# Altium footprint library CAPPRD250W45D630H600.PcbLib: 1 footprints
Each footprint in its own frame and in the unit in brackets; x right, y up, seen from the top. Pads: shape width x height; smd on the part's side, far side on the other; paste and mask are expansions set on the pad; w line width, h text height; cw(c..) or ccw(c..) is an arc to the next point about the centre after c.
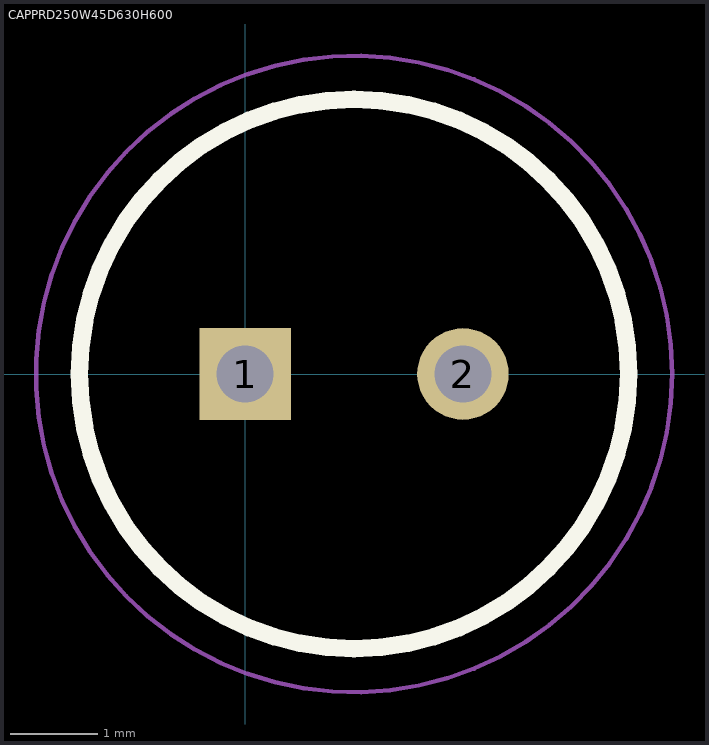
[diagram p0: the footprint, top view; thin cyan lines are the x and y axes]

## CAPPRD250W45D630H600 [mm]
pads (2):
  rect 1.05x1.05 / inner round 1.05 / far side rect 1.05x1.05 hole 0.65: 1(0,0)
  round 1.05 hole 0.65: 2(2.5,0)
Top Overlay:
  circle w0.2: c1.25,0 r3.15
Mechanical 15:
  circle w0.1: c1.25,0 r3.15
Mechanical 20:
  circle w0.05: c1.25,0 r3.65